# Altium footprint library NanoPI_DUO.PcbLib: 1 footprints
Each footprint in its own frame and in the unit in brackets; x right, y up, seen from the top. Pads: shape width x height; smd on the part's side, far side on the other; paste and mask are expansions set on the pad; w line width, h text height; cw(c..) or ccw(c..) is an arc to the next point about the centre after c.
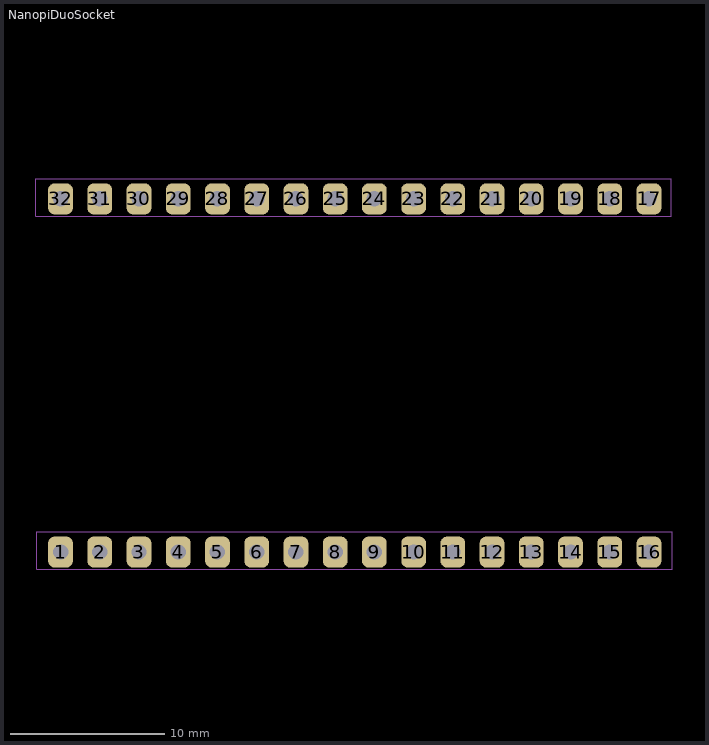
[diagram p0: the footprint, top view; thin cyan lines are the x and y axes]

## NanopiDuoSocket [mm]
pads (32):
  rrect50% 1.6x2 hole 1: 1(12.7,12.7) 2(15.24,12.7) 3(17.78,12.7) 4(20.32,12.7) 5(22.86,12.7) 6(25.4,12.7) 7(27.94,12.7) 8(30.48,12.7) 9(33.02,12.7) 10(35.56,12.7) 11(38.1,12.7) 12(40.64,12.7) 13(43.18,12.7) 14(45.72,12.7) 15(48.26,12.7) 16(50.8,12.7) 17(50.8,35.56) 18(48.26,35.56) 19(45.72,35.56) 20(43.18,35.56) 21(40.64,35.56) 22(38.1,35.56) 23(35.56,35.56) 24(33.02,35.56) 25(30.48,35.56) 26(27.94,35.56) 27(25.4,35.56) 28(22.86,35.56) 29(20.32,35.56) 30(17.78,35.56) 31(15.24,35.56) 32(12.7,35.56)
Mechanical 15:
  lines w0.01: 11.1,34.45 11.1,36.85 52.25,36.85 52.25,34.45 11.1,34.45 ; 11.15,11.6 11.15,14 52.3,14 52.3,11.6 11.15,11.6
3D body "PHF-116-01-S-S.stp": height 8.5, standoff -3.13, extent 11.151,11.587 52.299,14
3D body "PHF-116-01-S-S.stp": height 8.5, standoff -3.13, extent 11.1,34.437 52.248,36.85
3D body "NanoPI_DUO.step": height 15.38, standoff 2.52, extent 9.1,11.45 59.391,36.905